# Altium schematic symbol library resistors.SchLib: 3 symbols
Pins are listed as number, name and electrical type; pins without a type are passive.

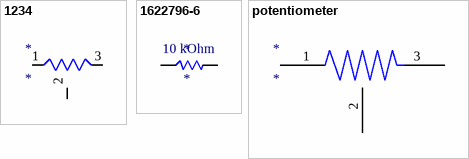
[diagram p0: symbols 1234 to potentiometer]

## 1234
designator *
Res Cermet Trimmer 10K Ohm 10% 1/2W 1(Elec)/1(Mech)Turn 2.77mm (6.71 X 8.53 X 5.21mm) Gull Wing SMD Embossed T/R; Manufacturer: Bourns; Manufacturer Part Number: 3361P-1-103GLF; Power Rating: 500mW; Resistance: 10kR; Voltage Rating: 300V; Number of Turns: 1; Temperature Coefficient: 100ppm/°C; Supplier 1: Digi-Key; RoHS: Yes; Category: Variable Resistors and Potentiometers; Stock 1: 14460; Pricing 1: 1=1.26000, 10=1.11000, 25=0.99920, 50=0.96200, 100=0.92500, 250=0.86952 (USD); Mount: Surface Mount; Weight: 0.567g; Color: Natural; Contact Plating: Tin,Matte; Min Operating Temperature: -55°C; Max Operating Temperature: 125°C; Tolerance: 10%; Packaging: Tape and Reel; Package Quantity: 1; Resistor Type: Cermet; Taper: Linear; Termination: Gull Wing; Max Power Dissipation: 500mW; Voltage Rating (DC): 300V; Series: Trimpot® 3361 - Sealed; Resistance Tolerance: 10%; Technology: CERMET; Length: 6.71mm; Width: 0.264inch; Height: 0.205inch; Depth: 8.53mm; Radiation Hardening: No; REACH SVHC: No SVHC; Military Standard: Not; Lead Free: Lead Free; RoHS Compliant: Yes; ComponentLink1URL: https://datasheet.ciiva.com/27747/2033640-27747919.pdf?src-supplier=Jameco; ComponentLink1Description: https://datasheet.ciiva.com/27747/2033640-27747919.pdf?src-supplier=Jameco; ComponentLink2URL: https://datasheet.ciiva.com/11833/0900766b80fe1d0c-11833213.pdf?src-supplier=RSComponents; ComponentLink2Description: https://datasheet.ciiva.com/11833/0900766b80fe1d0c-11833213.pdf?src-supplier=RSComponents; ComponentLink3URL: https://datasheet.ciiva.com/1477/1846252-1477716.pdf?src-supplier=Element14; ComponentLink3Description: https://datasheet.ciiva.com/1477/1846252-1477716.pdf?src-supplier=Element14; ComponentLink4URL: https://datasheet.ciiva.com/1477/1846252-1477717.pdf?src-supplier=Element14; ComponentLink4Description: https://datasheet.ciiva.com/1477/1846252-1477717.pdf?src-supplier=Element14; ComponentLink5URL: https://datasheet.ciiva.com/3266/3361-3266293.pdf?src-supplier=Avnet; ComponentLink5Description: https://datasheet.ciiva.com/3266/3361-3266293.pdf?src-supplier=Avnet; ComponentLink6URL: https://datasheet.ciiva.com/17562/3361-17562095.pdf?src-supplier=Avnet+Europe; ComponentLink6Description: https://datasheet.ciiva.com/17562/3361-17562095.pdf?src-supplier=Avnet+Europe; ComponentLink7URL: https://datasheet.ciiva.com/2156/3361-2156171.pdf?src-supplier=Digi-Key; ComponentLink7Description: https://datasheet.ciiva.com/2156/3361-2156171.pdf?src-supplier=Digi-Key; ComponentLink8URL: https://datasheet.ciiva.com/2156/3361-2156172.pdf?src-supplier=Digi-Key; ComponentLink8Description: https://datasheet.ciiva.com/2156/3361-2156172.pdf?src-supplier=Digi-Key; ComponentLink9URL: https://datasheet.ciiva.com/2156/3361-2156170.pdf?src-supplier=Digi-Key; ComponentLink9Description: https://datasheet.ciiva.com/2156/3361-2156170.pdf?src-supplier=Digi-Key; ComponentLink10URL: https://datasheet.ciiva.com/30200/3361-30200607.pdf?src-supplier=Onlinecomponents.com; ComponentLink10Description: https://datasheet.ciiva.com/30200/3361-30200607.pdf?src-supplier=Onlinecomponents.com; Supplier Part Number 1: 3361P-103GLFCT-ND
footprint 3361P-1-103GLF_SOP3
pins: 1, 2 wiper (out), 3

## 1622796-6
designator *
Res Thin Film 10K Ohm 0.1% 1/4W 15ppm/C Conformal AXL Thru-Hole Ammo Pack; Manufacturer: TE Connectivity; Manufacturer Part Number: 1622796-6; Resistance: 10kR; Temperature Coefficient: 15ppm/°C; Max Power Dissipation: 250mW; Supplier 1: Digi-Key; RoHS: Yes; Category: Through-Hole Resistors; Stock 1: 35957; Pricing 1: 1=0.60000, 10=0.50300, 25=0.43120, 50=0.38800, 100=0.33780, 250=0.30184, 500=0.24436 (USD); Mount: Through Hole; Case/Package: Conformal; Min Operating Temperature: -65°C; Max Operating Temperature: 155°C; Package Quantity: 1000; Tolerance: 0.1%; Packaging: Tape and Reel; Resistor Type: Metal Film,Thin Film; Number of Terminations: 2; Termination: Axial; Series: YR, Neohm; Construction: Cylindrical; Diameter: 2.3mm; Length: 6.3mm; RoHS Compliant: Yes; Military Standard: Not; ComponentLink1URL: https://datasheet.ciiva.com/8332/eng-ds-1773265-a-8332394.pdf?src-supplier=Avnet; ComponentLink1Description: https://datasheet.ciiva.com/8332/eng-ds-1773265-a-8332394.pdf?src-supplier=Avnet; ComponentLink2URL: https://datasheet.ciiva.com/6532/eng-ds-1773265-a-6532773.pdf?src-supplier=Digi-Key; ComponentLink2Description: https://datasheet.ciiva.com/6532/eng-ds-1773265-a-6532773.pdf?src-supplier=Digi-Key; ComponentLink3URL: https://datasheet.ciiva.com/48735/eng-ds-1773265-a-48735567.pdf?src-supplier=Onlinecomponents.com; ComponentLink3Description: https://datasheet.ciiva.com/48735/eng-ds-1773265-a-48735567.pdf?src-supplier=Onlinecomponents.com; Supplier Part Number 1: A105970CT-ND
footprint CHP0805-FX-1002ELF - duplicate
pins: 1, 2
text: 10 kOhm

## potentiometer
designator *
footprint 3361P-1-103GLF_SOP3
pins: 1, 2, 3